# EAGLE library part ISL1209 (library adafruit (2))
ISL1209 Low Power RTC with Battery Backed SRAM and Event Detection The ISL1209 device is a low power real time clock with event detect function, timing and crystal compensation, clock/calendar, power fail indicator, periodic or polled alarm, intelligent battery backup switching and battery-backed user SRAM.
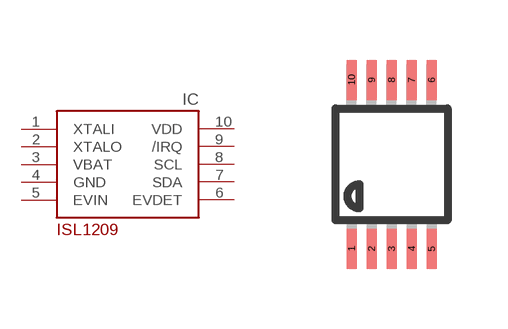
[diagram p65: symbol with the pads of MSOP10; footprint MSOP10]

Designator prefix IC

## ISL1209  [MSOP10]
1  XTALI  in
2  XTALO  out
3  VBAT  pwr
4  GND  pwr
5  EVIN  in
6  EVDET  out
7  SDA
8  SCL  in
9  /IRQ  out
10  VDD  pwr

## Footprint MSOP10 (pad centres in mm)
10-Lead Mini Small Outline Package [MSOP]
smd 0.25 x 1: 1 -1,-2.113; 2 -0.5,-2.113; 3 0,-2.113; 4 0.5,-2.113; 5 1,-2.113; 6 1,2.113; 7 0.5,2.113; 8 0,2.113; 9 -0.5,2.113; 10 -1,2.113